# EAGLE library part 648008117322 (library Wire-to-Board (rev18a))
WR-WTB 1.50mm Male Horizontal Shrouded Header, 8 Pins=>Code : Con_WTB_1.50_PCB_THT_648008117322 Details see: http://katalog.we-online.de/en/em/WTB_1_50_MALE_HORIZONTAL_SHROUDED_HEADER_6480XX117322 <http://katalog.we-online.de/media/thumbs2/eican/thb_Con_WTB_1.50_PCB_THT_6480xx117322_pf2.jpg> Created 2014-06-06, Karrer Zheng 2014 (C) Würth Elektronik
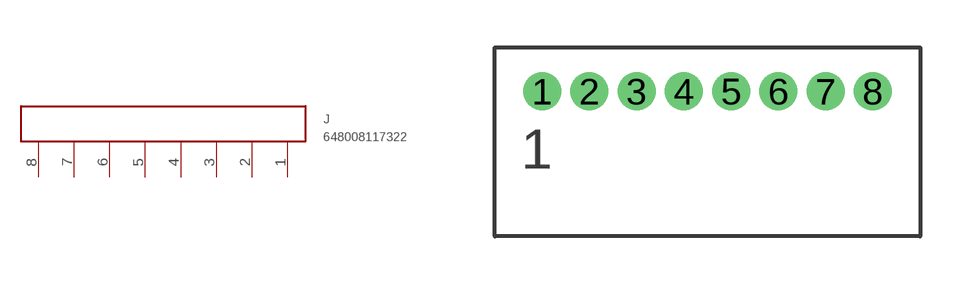
[diagram p78: symbol with the pads of 648008117322; footprint 648008117322]

Designator prefix J

## 648008117322  [648008117322]
1  8  pas
2  7  pas
3  6  pas
4  5  pas
5  4  pas
6  3  pas
7  2  pas
8  1  pas

## Footprint 648008117322 (pad centres in mm)
WR-WTB 1.50mm Male Horizontal Shrouded Header, 8 Pins
drill 0.7: 1 -5.25,0; 2 -3.75,0; 3 -2.25,0; 4 -0.75,0; 5 0.75,0; 6 2.25,0; 7 3.75,0; 8 5.25,0